# Altium schematic symbol library 3-6437285-0.SchLib: 1 symbol
Pins are listed as number, name and electrical type; pins without a type are passive.

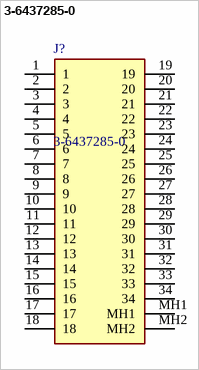
[diagram p0: symbol 3-6437285-0]

## 3-6437285-0
designator J?
Body Features: Primary Product Color Black | Configuration Features: PCB Mount Orientation Horizontal | Number of Rows 4 | Number of Signal Positions 34 | Number of Positions 34 | Contact Features: Contact Size 1mm | Contact Type Pin | Mating Pin Diameter .039 INCH | Contact Mating Area Plating Material Gold | Mating Pin Diameter 1 MM | Dimensions: Profile Height from PCB .843 INCH | Connector Length 1.791 INCH | Profile Height from PCB 21.4 MM | Connector Width .906 INCH | Connector Length 45.5 MM | Connec; Manufacturer_Name: TE Connectivity; Geometry.Height: 28.2mm; Mouser Part Number: 571-3-6437285-0; Mouser Price/Stock: https://www.mouser.co.uk/ProductDetail/TE-Connectivity/3-6437285-0?qs=WBj8811fzwFF9aG7dQQTdA%3D%3D; Manufacturer_Part_Number: 3-6437285-0; Datasheet Link: https://www.te.com/commerce/DocumentDelivery/DDEController?Action=srchrtrv&DocNm=1-1773950-7&DocType=Data%20Sheet&DocLang=English&PartCntxt=3-6437285-0&DocFormat=pdf
footprint 364372850
pins: 1, 2, 3, 4, 5, 6, 7, 8, 9, 10, 11, 12, 13, 14, 15, 16, 17, 18, 19, 20, 21, 22, 23, 24, 25, 26, 27, 28, 29, 30, 31, 32, 33, 34, MH1, MH2